# Altium schematic symbol library pporyzala-TI_Lighting.SchLib: 745 symbols (part 42 of 48)
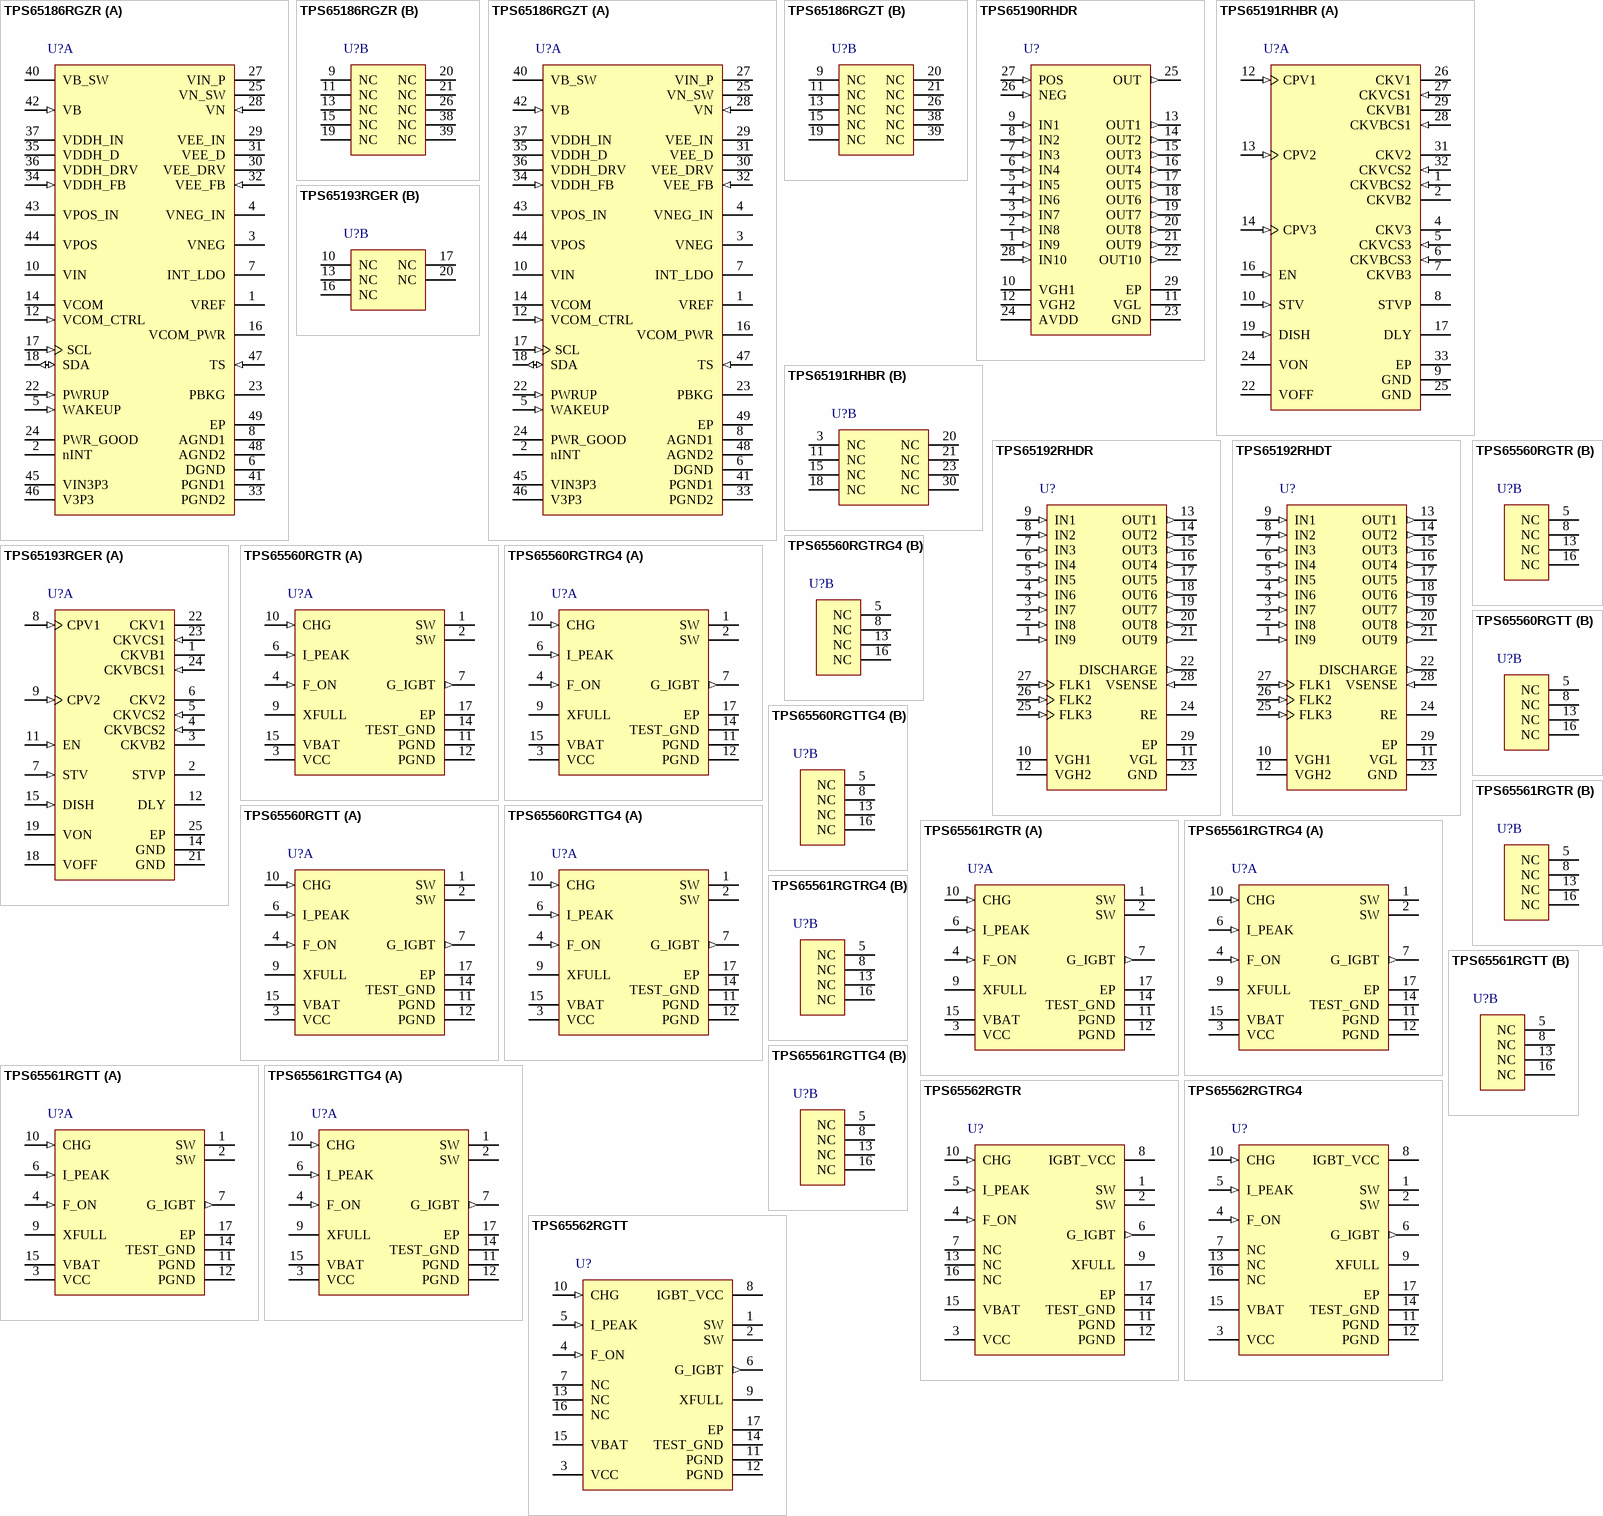
[diagram p72: symbols TPS65186RGZR to TPS65562RGTT]

## TPS65190RHDR
designator U?
10-Channel Level Shifter for LCD Displays with VCOM Op-Amp, 12 to 38 V, -40 to 85 degC, 28-pin QFN (RHD28), Green (RoHS & no Sb/Br); Manufacturer: Texas Instruments; PartNumber: TPS65190RHDR; Rating: Catalog; SubFamily: LCD/OLED Display Bias Solutions; Switching Frequency(Max)(kHz): 200; Vin(Max)(V): 38; Vin(Min)(V): 12; DatasheetVersion: SLVS881; PackageVersion: 4204400/F; PackageReference: RHD28-3150X3150TP; PackageDescription: 28-Pin Plastic Flat Pack, Body 5 x 5 mm, Pitch 0.5 mm; Supplier 1: Digi-Key; Supplier Part Number 1: 296-25185-2-ND; Supplier 2: Digi-Key; Supplier Part Number 2: 296-25185-1-ND; Supplier 3: Digi-Key; Supplier Part Number 3: 296-25185-6-ND; Supplier 4: Mouser; Supplier Part Number 4: 595-TPS65190RHDR; Eco-Plan: Green (RoHS & no Sb/Br); Mounting Technology: Surface Mount; Code_JEDEC: MO-220; ComponentLink1Description: Manufacturer URL; ComponentLink1URL: http://www.ti.com/; ComponentLink2Description: Datasheet; ComponentLink2URL: http://www.ti.com/general/docs/lit/getliterature.tsp?genericPartNumber=TPS65190&fileType=pdf; ComponentLink3Description: Package Specification; ComponentLink3URL: http://www.ti.com/lit/ml/mpqf133e/mpqf133e.pdf
footprint TI-RHD28-3150X3150TP_V (QFN, 28-Leads, Body 5x5mm, Pitch 0.5mm, Thermal Pad 3.15x3.15mm)
pins: 1 IN9 (in) "Level shifter channel 9 input", 2 IN8 (in) "Level shifter channel 8 input", 3 IN7 (in) "Level shifter channel 7 input", 4 IN6 (in) "Level shifter channel 6 input", 5 IN5 (in) "Level shifter channel 5 input", 6 IN4 (in) "Level shifter channel 4 input", 7 IN3 (in) "Level shifter channel 3 input", 8 IN2 (in) "Level shifter channel 2 input", 9 IN1 (in) "Level shifter channel 1 input", 10 VGH1 (power) "Positive supply for level shifter channels 1-6 and 9-10", 11 VGL (power) "Negative supply voltage for all level shifter channels", 12 VGH2 (power) "Positive supply for level shifter channels 7-8", 13 OUT1 (out) "Level shifter channel 1 output", 14 OUT2 (out) "Level shifter channel 2 output", 15 OUT3 (out) "Level shifter channel 3 output", 16 OUT4 (out) "Level shifter channel 4 output", 17 OUT5 (out) "Level shifter channel 5 output", 18 OUT6 (out) "Level shifter channel 6 output", 19 OUT7 (out) "Level shifter channel 7 output", 20 OUT8 (out) "Level shifter channel 8 output", 21 OUT9 (out) "Level shifter channel 9 output", 22 OUT10 (out) "Level shifter channel 10 output", 23 GND (power) "Ground connection for level shifter and operational amplifier.", 24 AVDD (power) "Operational amplifier positive supply", 25 OUT (out) "Operational amplifier output", 26 NEG (in) "Operational amplifier inverting input", 27 POS (in) "Operational amplifier non-inverting input", 28 IN10 (in) "Level shifter channel 10 input", 29 EP (power) "Connect to the system VGL connection."

## TPS65191RHBR
designator U?
7-Channel Level Shifter for LCD Displays, 15 to 35 V, -40 to 85 degC, 32-pin QFN (RHB32), Green (RoHS & no Sb/Br); Manufacturer: Texas Instruments; PartNumber: TPS65191RHBR; Rating: Catalog; SubFamily: LCD/OLED Display Bias Solutions; Switching Frequency(Max)(kHz): 150; Vin(Max)(V): 35; Vin(Min)(V): 15; DatasheetVersion: SLVS963A; PackageVersion: 4204326/D; PackageReference: RHB32-3450X3450TP; PackageDescription: 32-Pin Plastic Flat Pack, Body 5 x 5 mm, Pitch 0.5 mm; Supplier 1: Digi-Key; Supplier Part Number 1: 296-24956-2-ND; Supplier 2: Digi-Key; Supplier Part Number 2: 296-24956-1-ND; Supplier 3: Digi-Key; Supplier Part Number 3: 296-24956-6-ND; Supplier 4: Mouser; Supplier Part Number 4: 595-TPS65191RHBR; Eco-Plan: Green (RoHS & no Sb/Br); Mounting Technology: Surface Mount; Code_JEDEC: MO-220; ComponentLink1Description: Manufacturer URL; ComponentLink1URL: http://www.ti.com/; ComponentLink2Description: Datasheet; ComponentLink2URL: http://www.ti.com/general/docs/lit/getliterature.tsp?genericPartNumber=TPS65191&fileType=pdf; ComponentLink3Description: Package Specification; ComponentLink3URL: http://www.ti.com/lit/ml/mpqf130c/mpqf130c.pdf
footprint TI-RHB32-3450X3450TP_V (QFN, 32-Leads, Body 5x5mm, Pitch 0.5mm, Thermal Pad 3.45x3.45mm)
part A pins: 1 CKVBCS2 (in) "Charge-share input for CKVB2", 2 CKVB2 (hiz) "Inverted-output vertical-scan clock 2 for ASG", 4 CKV3 (hiz) "Output vertical-scan clock 3 for ASG", 5 CKVCS3 (in) "Charge-share input for CKV3", 6 CKVBCS3 (in) "Charge-share input for CKVB3", 7 CKVB3 (hiz) "Inverted-output vertical-scan clock 3 for ASG", 8 STVP (hiz) "Output vertical-scan start signal", 9 GND (power) "Ground", 10 STV (in) "Input vertical-scan start signal", 12 CPV1 (in) "Input vertical-scan clock 1", 13 CPV2 (in) "Input vertical-scan clock 2", 14 CPV3 (in) "Input vertical-scan clock 3", 16 EN (in) "Enable pin of device. When this pin is pulled high, the device starts up after a delay time set by DLY has passed.", 17 DLY "Connecting a capacitor from this pin to GND allows the setting of the start-up delay.", 19 DISH (in) "VOFF discharge control", 22 VOFF (power) "Negative low-supply voltage", 24 VON (power) "Positive high-supply voltage", 25 GND (power) "Ground", 26 CKV1 (hiz) "Output vertical-scan clock 1 for ASG", 27 CKVCS1 (in) "Charge-share input for CKV1", 28 CKVBCS1 (in) "Charge-share input for CKVB1", 29 CKVB1 (hiz) "Inverted-output vertical-scan clock 1 for ASG", 31 CKV2 (hiz) "Output vertical-scan clock 2 for ASG", 32 CKVCS2 (in) "Charge-share input for CKV2", 33 EP "Not connected"
part B pins: 3 NC "Not connected", 11 NC "Not connected", 15 NC "Not connected", 18 NC "Not connected", 20 NC "Not connected", 21 NC "Not connected", 23 NC "Not connected", 30 NC "Not connected"

## TPS65192RHDR
designator U?
9-Channel Level Shifter for LCD Displays with GPM, 12 to 38 V, -40 to 85 degC, 28-pin QFN (RHD28), Green (RoHS & no Sb/Br); Manufacturer: Texas Instruments; PartNumber: TPS65192RHDR; Rating: Catalog; SubFamily: LCD/OLED Display Bias Solutions; Switching Frequency(Max)(kHz): 200; Vin(Max)(V): 38; Vin(Min)(V): 12; DatasheetVersion: SLVS962; PackageVersion: 4204400/F; PackageReference: RHD28-3150X3150TP; PackageDescription: 28-Pin Plastic Flat Pack, Body 5 x 5 mm, Pitch 0.5 mm; Supplier 1: Digi-Key; Supplier Part Number 1: 296-24871-2-ND; Supplier 2: Digi-Key; Supplier Part Number 2: 296-24871-1-ND; Supplier 3: Digi-Key; Supplier Part Number 3: 296-24871-6-ND; Supplier 4: Mouser; Supplier Part Number 4: 595-TPS65192RHDR; Eco-Plan: Green (RoHS & no Sb/Br); Mounting Technology: Surface Mount; Code_JEDEC: MO-220; ComponentLink1Description: Manufacturer URL; ComponentLink1URL: http://www.ti.com/; ComponentLink2Description: Datasheet; ComponentLink2URL: http://www.ti.com/general/docs/lit/getliterature.tsp?genericPartNumber=TPS65192&fileType=pdf; ComponentLink3Description: Package Specification; ComponentLink3URL: http://www.ti.com/lit/ml/mpqf133e/mpqf133e.pdf
footprint TI-RHD28-3150X3150TP_V (QFN, 28-Leads, Body 5x5mm, Pitch 0.5mm, Thermal Pad 3.15x3.15mm)
pins: 1 IN9 (in) "Level shifter channel 9 input. Connect this pin to GND, if not used.", 2 IN8 (in) "Level shifter channel 8 input. Connect this pin to GND, if not used.", 3 IN7 (in) "Level shifter channel 7 input. Connect this pin to GND, if not used.", 4 IN6 (in) "Level shifter channel 6 input. Connect this pin to GND, if not used.", 5 IN5 (in) "Level shifter channel 5 input. Connect this pin to GND, if not used.", 6 IN4 (in) "Level shifter channel 4 input. Connect this pin to GND, if not used.", 7 IN3 (in) "Level shifter channel 3 input. Connect this pin to GND, if not used.", 8 IN2 (in) "Level shifter channel 2 input. Connect this pin to GND, if not used.", 9 IN1 (in) "Level shifter channel 1 input. Connect this pin to GND, if not used.", 10 VGH1 (power) "Positive supply voltage for level shifter channels 1 through 7 and discharge function. Bypass this pin with a parallel combination of 10uF and 100nF ceramic capacitors.", 11 VGL (power) "Negative supply voltage. Bypass this pin with a parallel combination of 10uF and 100nF ceramic capacitors", 12 VGH2 (power) "Positive supply voltage for level shifter channels 8 and 9. Bypass this pin with a parallel combination of 10uF and 100nF ceramic capacitors.", 13 OUT1 (out) "Level shifter channel 1 output. Leave this pin floating, if not used.", 14 OUT2 (out) "Level shifter channel 2 output. Leave this pin floating, if not used.", 15 OUT3 (out) "Level shifter channel 3 output. Leave this pin floating, if not used.", 16 OUT4 (out) "Level shifter channel 4 output. Leave this pin floating, if not used.", 17 OUT5 (out) "Level shifter channel 5 output. Leave this pin floating, if not used.", 18 OUT6 (out) "Level shifter channel 6 output. Leave this pin floating, if not used.", 19 OUT7 (out) "Level shifter channel 7 output. Leave this pin floating, if not used.", 20 OUT8 (out) "Level shifter channel 8 output. Leave this pin floating, if not used.", 21 OUT9 (out) "Level shifter channel 9 output. Leave this pin floating, if not used.", 22 DISCHARGE (out) "Panel discharge output. Leave this pin floating, if not used.", 23 GND (power) "Ground.", 24 RE "Gate voltage shaping discharge resistor connection. Leave this pin floating, if not used.", 25 FLK3 (in) "Gate voltage shaping flicker clock input for channels 3 and 6. Connect this pin to GND if not used.", 26 FLK2 (in) "Gate voltage shaping flicker clock input for channels 2 and 5. Connect this pin to GND if not used.", 27 FLK1 (in) "Gate voltage shaping flicker clock input for channels 1 and 4. Connect this pin to GND if not used.", 28 VSENSE (in) "Panel discharge voltage sense. Connect this pin to GND, if not used.", 29 EP (power) "Connect to VGL"

## TPS65192RHDT
designator U?
9-Channel Level Shifter for LCD Displays with GPM, 12 to 38 V, -40 to 85 degC, 28-pin QFN (RHD28); Manufacturer: Texas Instruments; PartNumber: TPS65192RHDT; Rating: Catalog; SubFamily: LCD/OLED Display Bias Solutions; Switching Frequency(Max)(kHz): 200; Vin(Max)(V): 38; Vin(Min)(V): 12; DatasheetVersion: SLVS962; PackageVersion: 4204400/F; PackageReference: RHD28-3150X3150TP; PackageDescription: 28-Pin Plastic Flat Pack, Body 5 x 5 mm, Pitch 0.5 mm; Supplier 1: Mouser; Supplier Part Number 1: N/A; Mounting Technology: Surface Mount; Code_JEDEC: MO-220; ComponentLink1Description: Manufacturer URL; ComponentLink1URL: http://www.ti.com/; ComponentLink2Description: Datasheet; ComponentLink2URL: http://www.ti.com/general/docs/lit/getliterature.tsp?genericPartNumber=TPS65192&fileType=pdf; ComponentLink3Description: Package Specification; ComponentLink3URL: http://www.ti.com/lit/ml/mpqf133e/mpqf133e.pdf
footprint TI-RHD28-3150X3150TP_V (QFN, 28-Leads, Body 5x5mm, Pitch 0.5mm, Thermal Pad 3.15x3.15mm)
pins: 1 IN9 (in) "Level shifter channel 9 input. Connect this pin to GND, if not used.", 2 IN8 (in) "Level shifter channel 8 input. Connect this pin to GND, if not used.", 3 IN7 (in) "Level shifter channel 7 input. Connect this pin to GND, if not used.", 4 IN6 (in) "Level shifter channel 6 input. Connect this pin to GND, if not used.", 5 IN5 (in) "Level shifter channel 5 input. Connect this pin to GND, if not used.", 6 IN4 (in) "Level shifter channel 4 input. Connect this pin to GND, if not used.", 7 IN3 (in) "Level shifter channel 3 input. Connect this pin to GND, if not used.", 8 IN2 (in) "Level shifter channel 2 input. Connect this pin to GND, if not used.", 9 IN1 (in) "Level shifter channel 1 input. Connect this pin to GND, if not used.", 10 VGH1 (power) "Positive supply voltage for level shifter channels 1 through 7 and discharge function. Bypass this pin with a parallel combination of 10uF and 100nF ceramic capacitors.", 11 VGL (power) "Negative supply voltage. Bypass this pin with a parallel combination of 10uF and 100nF ceramic capacitors", 12 VGH2 (power) "Positive supply voltage for level shifter channels 8 and 9. Bypass this pin with a parallel combination of 10uF and 100nF ceramic capacitors.", 13 OUT1 (out) "Level shifter channel 1 output. Leave this pin floating, if not used.", 14 OUT2 (out) "Level shifter channel 2 output. Leave this pin floating, if not used.", 15 OUT3 (out) "Level shifter channel 3 output. Leave this pin floating, if not used.", 16 OUT4 (out) "Level shifter channel 4 output. Leave this pin floating, if not used.", 17 OUT5 (out) "Level shifter channel 5 output. Leave this pin floating, if not used.", 18 OUT6 (out) "Level shifter channel 6 output. Leave this pin floating, if not used.", 19 OUT7 (out) "Level shifter channel 7 output. Leave this pin floating, if not used.", 20 OUT8 (out) "Level shifter channel 8 output. Leave this pin floating, if not used.", 21 OUT9 (out) "Level shifter channel 9 output. Leave this pin floating, if not used.", 22 DISCHARGE (out) "Panel discharge output. Leave this pin floating, if not used.", 23 GND (power) "Ground.", 24 RE "Gate voltage shaping discharge resistor connection. Leave this pin floating, if not used.", 25 FLK3 (in) "Gate voltage shaping flicker clock input for channels 3 and 6. Connect this pin to GND if not used.", 26 FLK2 (in) "Gate voltage shaping flicker clock input for channels 2 and 5. Connect this pin to GND if not used.", 27 FLK1 (in) "Gate voltage shaping flicker clock input for channels 1 and 4. Connect this pin to GND if not used.", 28 VSENSE (in) "Panel discharge voltage sense. Connect this pin to GND, if not used.", 29 EP (power) "Connect to VGL"

## TPS65193RGER
designator U?
5-Channel Level Shifter for LCD Displays, 15 to 35 V, -40 to 85 degC, 24-pin QFN (RGE24), Green (RoHS & no Sb/Br); Manufacturer: Texas Instruments; PartNumber: TPS65193RGER; Rating: Catalog; SubFamily: LCD/OLED Display Bias Solutions; Switching Frequency(Max)(kHz): 150; Vin(Max)(V): 35; Vin(Min)(V): 15; DatasheetVersion: SLVS964A; PackageVersion: 4204104/G; PackageReference: RGE24-2800X2800TP; PackageDescription: 24-Pin Plastic Flat Pack, Body 4 x 4 mm, Pitch 0.5 mm; Supplier 1: Digi-Key; Supplier Part Number 1: 296-24943-2-ND; Supplier 2: Digi-Key; Supplier Part Number 2: 296-24943-1-ND; Supplier 3: Digi-Key; Supplier Part Number 3: 296-24943-6-ND; Supplier 4: Newark; Supplier Part Number 4: 50R8153; Supplier 5: Mouser; Supplier Part Number 5: 595-TPS65193RGER; Eco-Plan: Green (RoHS & no Sb/Br); Mounting Technology: Surface Mount; Code_JEDEC: MO-220; ComponentLink1Description: Manufacturer URL; ComponentLink1URL: http://www.ti.com/; ComponentLink2Description: Datasheet; ComponentLink2URL: http://www.ti.com/general/docs/lit/getliterature.tsp?genericPartNumber=TPS65193&fileType=pdf; ComponentLink3Description: Package Specification; ComponentLink3URL: http://www.ti.com/litv/pdf/mpqf124f
footprint TI-RGE24-2800X2800TP_V (QFN, 24-Leads, Body 4x4mm, Pitch 0.5mm, Thermal Pad 2.8X2.8mm)
part A pins: 1 CKVB1 (hiz) "Inverted-output vertical-scan clock 1 for ASG", 2 STVP (hiz) "Output vertical-scan start signal", 3 CKVB2 (hiz) "Inverted-output vertical-scan clock 2 for ASG", 4 CKVBCS2 (in) "Charge-share input for CKVB2", 5 CKVCS2 (in) "Charge-share input for CKV2", 6 CKV2 (hiz) "Output vertical-scan clock 2 for ASG", 7 STV (in) "Input vertical-scan start signal", 8 CPV1 (in) "Input vertical-scan clock 1", 9 CPV2 (in) "Input vertical-scan clock 2", 11 EN (in) "Enable pin of device. When this pin is pulled high, the device starts up after a delay time set by DLY has passed.", 12 DLY "Connecting a capacitor from this pin to GND allows the setting of the start-up delay.", 14 GND (power) "Ground", 15 DISH (in) "VOFF discharge control", 18 VOFF (power) "Negative low-supply voltage", 19 VON (power) "Positive high-supply voltage", 21 GND (power) "Ground", 22 CKV1 (hiz) "Output vertical-scan clock 1 for ASG", 23 CKVCS1 (in) "Charge-share input for CKV1", 24 CKVBCS1 (in) "Charge-share input for CKVB1", 25 EP "Not connected"
part B pins: 10 NC "Not connected", 13 NC "Not connected", 16 NC "Not connected", 17 NC "Not connected", 20 NC "Not connected"

## TPS65560RGTR
designator U?
Integrated Photo Flash Charger and IGBT Driver, 2.7 to 4 V, -35 to 85 degC, 16-pin QFN (RGT16), Green (RoHS & no Sb/Br); Manufacturer: Texas Instruments; PartNumber: TPS65560RGTR; Rating: Catalog; SubFamily: Photo-Flash Capacitor Charger; Vin(Max)(V): 12; Vin(Min)(V): 1.6; DatasheetVersion: SLVS608; PackageVersion: 4203495/H; PackageReference: RGT16-1700X1700TP; PackageDescription: 16-Pin Plastic Flat Pack, Body 3 x 3 mm, Pitch 0.5 mm; Supplier 1: Digi-Key; Supplier Part Number 1: 296-19478-2-ND; Supplier 2: Digi-Key; Supplier Part Number 2: 296-19478-1-ND; Supplier 3: Digi-Key; Supplier Part Number 3: 296-19478-6-ND; Supplier 4: Newark; Supplier Part Number 4: 80K3423; Supplier 5: Mouser; Supplier Part Number 5: 595-TPS65560RGTR; Eco-Plan: Green (RoHS & no Sb/Br); Mounting Technology: Surface Mount; Code_JEDEC: MO-220; ComponentLink1Description: Manufacturer URL; ComponentLink1URL: http://www.ti.com/; ComponentLink2Description: Datasheet; ComponentLink2URL: http://www.ti.com/general/docs/lit/getliterature.tsp?genericPartNumber=TPS65560&fileType=pdf; ComponentLink3Description: Package Specification; ComponentLink3URL: http://www.ti.com/litv/pdf/mpqf119g
footprint TI-RGT16-1700X1700TP_V (QFN, 16-Leads, Body 3x3mm, Pitch 0.5mm, Thermal Pad 1.7x1.7mm)
part A pins: 1 SW (power) "Primary side switch. Connect SW to the switched side of the transformer", 2 SW (power) "Primary side switch. Connect SW to the switched side of the transformer", 3 VCC (power) "Power supply input. Connect VCC to an input supply from 2.7 V to 4 V. Bypass VCC to GND with a 1-mF ceramic capacitor as close as possible to the IC.", 4 F_ON (in) "G_IGBT control input. Drives F_ON with the flash discharge signal. A logic high on F_ON drives G_IGBT high when CHG is Low. See the IGBT Driver Conrtol section for details.", 6 I_PEAK (in) "Primary side peak current control input. The voltage at I_PEAK sets the peak current into SW. See the Programming Peak Current section for details on selecting V(I_PEAK).", 7 G_IGBT (out) "IGBT gate driver output. G_IGBT swings from PGND to VCC to drive external IGBT devices.", 9 XFULL (hiz) "Charge completion indicator output. XFULL is an open-drain output that pulls low once the output is fully charged. XFULL is high impedance during charging and all fault conditions. XFULL is reseted when CHG turns Low from (See Datasheet)", 10 CHG (in) "Charge control input. Drive CHG high to initiate charging of the output. Drive CHG low to terminate charging.", 11 PGND (power) "Power ground. Connect to the ground plane.", 12 PGND (power) "Power ground. Connect to the ground plane.", 14 TEST_GND (power) "Used by TI, should be connected to PGND and ground plane.", 15 VBAT (power) "Battery voltage monitor input. Connect VBAT to an input supply from 1.6 V to 12 V. Bypass VBAT to GND with a 10-mF ceramic capacitor (C1 in Figure 1, as close as possible to the battery) and a 1-mF ceramic capacitor (C2 in (See Datasheet)", 17 EP "Exposed Thermal pad"
part B pins: 5 NC "No internal connection", 8 NC "No internal connection", 13 NC "No internal connection", 16 NC "No internal connection"

## TPS65560RGTRG4
designator U?
Integrated Photo Flash Charger and IGBT Driver, 2.7 to 4 V, -35 to 85 degC, 16-pin QFN (RGT16), Green (RoHS & no Sb/Br); Manufacturer: Texas Instruments; PartNumber: TPS65560RGTRG4; Rating: Catalog; SubFamily: Photo-Flash Capacitor Charger; Vin(Max)(V): 12; Vin(Min)(V): 1.6; DatasheetVersion: SLVS608; PackageVersion: 4203495/H; PackageReference: RGT16-1700X1700TP; PackageDescription: 16-Pin Plastic Flat Pack, Body 3 x 3 mm, Pitch 0.5 mm; Supplier 1: Digi-Key; Supplier Part Number 1: TPS65560RGTRG4-ND; Supplier 2: Mouser; Supplier Part Number 2: 595-TPS65560RGTRG4; Eco-Plan: Green (RoHS & no Sb/Br); Mounting Technology: Surface Mount; Code_JEDEC: MO-220; ComponentLink1Description: Manufacturer URL; ComponentLink1URL: http://www.ti.com/; ComponentLink2Description: Datasheet; ComponentLink2URL: http://www.ti.com/general/docs/lit/getliterature.tsp?genericPartNumber=TPS65560&fileType=pdf; ComponentLink3Description: Package Specification; ComponentLink3URL: http://www.ti.com/litv/pdf/mpqf119g
footprint TI-RGT16-1700X1700TP_V (QFN, 16-Leads, Body 3x3mm, Pitch 0.5mm, Thermal Pad 1.7x1.7mm)
part A pins: 1 SW (power) "Primary side switch. Connect SW to the switched side of the transformer", 2 SW (power) "Primary side switch. Connect SW to the switched side of the transformer", 3 VCC (power) "Power supply input. Connect VCC to an input supply from 2.7 V to 4 V. Bypass VCC to GND with a 1-mF ceramic capacitor as close as possible to the IC.", 4 F_ON (in) "G_IGBT control input. Drives F_ON with the flash discharge signal. A logic high on F_ON drives G_IGBT high when CHG is Low. See the IGBT Driver Conrtol section for details.", 6 I_PEAK (in) "Primary side peak current control input. The voltage at I_PEAK sets the peak current into SW. See the Programming Peak Current section for details on selecting V(I_PEAK).", 7 G_IGBT (out) "IGBT gate driver output. G_IGBT swings from PGND to VCC to drive external IGBT devices.", 9 XFULL (hiz) "Charge completion indicator output. XFULL is an open-drain output that pulls low once the output is fully charged. XFULL is high impedance during charging and all fault conditions. XFULL is reseted when CHG turns Low from (See Datasheet)", 10 CHG (in) "Charge control input. Drive CHG high to initiate charging of the output. Drive CHG low to terminate charging.", 11 PGND (power) "Power ground. Connect to the ground plane.", 12 PGND (power) "Power ground. Connect to the ground plane.", 14 TEST_GND (power) "Used by TI, should be connected to PGND and ground plane.", 15 VBAT (power) "Battery voltage monitor input. Connect VBAT to an input supply from 1.6 V to 12 V. Bypass VBAT to GND with a 10-mF ceramic capacitor (C1 in Figure 1, as close as possible to the battery) and a 1-mF ceramic capacitor (C2 in (See Datasheet)", 17 EP "Exposed Thermal pad"
part B pins: 5 NC "No internal connection", 8 NC "No internal connection", 13 NC "No internal connection", 16 NC "No internal connection"

## TPS65560RGTT
designator U?
Integrated Photo Flash Charger and IGBT Driver, 2.7 to 4 V, -35 to 85 degC, 16-pin QFN (RGT16), Green (RoHS & no Sb/Br); Manufacturer: Texas Instruments; PartNumber: TPS65560RGTT; Rating: Catalog; SubFamily: Photo-Flash Capacitor Charger; Vin(Max)(V): 12; Vin(Min)(V): 1.6; DatasheetVersion: SLVS608; PackageVersion: 4203495/H; PackageReference: RGT16-1700X1700TP; PackageDescription: 16-Pin Plastic Flat Pack, Body 3 x 3 mm, Pitch 0.5 mm; Supplier 1: Digi-Key; Supplier Part Number 1: TPS65560RGTT-ND; Supplier 2: Farnell; Supplier Part Number 2: 1755646RL; Supplier 3: Farnell; Supplier Part Number 3: 1755646; Supplier 4: Newark; Supplier Part Number 4: 80K3424; Supplier 5: Mouser; Supplier Part Number 5: 595-TPS65560RGTT; Eco-Plan: Green (RoHS & no Sb/Br); Mounting Technology: Surface Mount; Code_JEDEC: MO-220; ComponentLink1Description: Manufacturer URL; ComponentLink1URL: http://www.ti.com/; ComponentLink2Description: Datasheet; ComponentLink2URL: http://www.ti.com/general/docs/lit/getliterature.tsp?genericPartNumber=TPS65560&fileType=pdf; ComponentLink3Description: Package Specification; ComponentLink3URL: http://www.ti.com/litv/pdf/mpqf119g
footprint TI-RGT16-1700X1700TP_V (QFN, 16-Leads, Body 3x3mm, Pitch 0.5mm, Thermal Pad 1.7x1.7mm)
part A pins: 1 SW (power) "Primary side switch. Connect SW to the switched side of the transformer", 2 SW (power) "Primary side switch. Connect SW to the switched side of the transformer", 3 VCC (power) "Power supply input. Connect VCC to an input supply from 2.7 V to 4 V. Bypass VCC to GND with a 1-mF ceramic capacitor as close as possible to the IC.", 4 F_ON (in) "G_IGBT control input. Drives F_ON with the flash discharge signal. A logic high on F_ON drives G_IGBT high when CHG is Low. See the IGBT Driver Conrtol section for details.", 6 I_PEAK (in) "Primary side peak current control input. The voltage at I_PEAK sets the peak current into SW. See the Programming Peak Current section for details on selecting V(I_PEAK).", 7 G_IGBT (out) "IGBT gate driver output. G_IGBT swings from PGND to VCC to drive external IGBT devices.", 9 XFULL (hiz) "Charge completion indicator output. XFULL is an open-drain output that pulls low once the output is fully charged. XFULL is high impedance during charging and all fault conditions. XFULL is reseted when CHG turns Low from (See Datasheet)", 10 CHG (in) "Charge control input. Drive CHG high to initiate charging of the output. Drive CHG low to terminate charging.", 11 PGND (power) "Power ground. Connect to the ground plane.", 12 PGND (power) "Power ground. Connect to the ground plane.", 14 TEST_GND (power) "Used by TI, should be connected to PGND and ground plane.", 15 VBAT (power) "Battery voltage monitor input. Connect VBAT to an input supply from 1.6 V to 12 V. Bypass VBAT to GND with a 10-mF ceramic capacitor (C1 in Figure 1, as close as possible to the battery) and a 1-mF ceramic capacitor (C2 in (See Datasheet)", 17 EP "Exposed Thermal pad"
part B pins: 5 NC "No internal connection", 8 NC "No internal connection", 13 NC "No internal connection", 16 NC "No internal connection"

## TPS65560RGTTG4
designator U?
Integrated Photo Flash Charger and IGBT Driver, 2.7 to 4 V, -35 to 85 degC, 16-pin QFN (RGT16), Green (RoHS & no Sb/Br); Manufacturer: Texas Instruments; PartNumber: TPS65560RGTTG4; Rating: Catalog; SubFamily: Photo-Flash Capacitor Charger; Vin(Max)(V): 12; Vin(Min)(V): 1.6; DatasheetVersion: SLVS608; PackageVersion: 4203495/H; PackageReference: RGT16-1700X1700TP; PackageDescription: 16-Pin Plastic Flat Pack, Body 3 x 3 mm, Pitch 0.5 mm; Supplier 1: Digi-Key; Supplier Part Number 1: TPS65560RGTTG4-ND; Supplier 2: Mouser; Supplier Part Number 2: 595-TPS65560RGTTG4; Eco-Plan: Green (RoHS & no Sb/Br); Mounting Technology: Surface Mount; Code_JEDEC: MO-220; ComponentLink1Description: Manufacturer URL; ComponentLink1URL: http://www.ti.com/; ComponentLink2Description: Datasheet; ComponentLink2URL: http://www.ti.com/general/docs/lit/getliterature.tsp?genericPartNumber=TPS65560&fileType=pdf; ComponentLink3Description: Package Specification; ComponentLink3URL: http://www.ti.com/litv/pdf/mpqf119g
footprint TI-RGT16-1700X1700TP_V (QFN, 16-Leads, Body 3x3mm, Pitch 0.5mm, Thermal Pad 1.7x1.7mm)
part A pins: 1 SW (power) "Primary side switch. Connect SW to the switched side of the transformer", 2 SW (power) "Primary side switch. Connect SW to the switched side of the transformer", 3 VCC (power) "Power supply input. Connect VCC to an input supply from 2.7 V to 4 V. Bypass VCC to GND with a 1-mF ceramic capacitor as close as possible to the IC.", 4 F_ON (in) "G_IGBT control input. Drives F_ON with the flash discharge signal. A logic high on F_ON drives G_IGBT high when CHG is Low. See the IGBT Driver Conrtol section for details.", 6 I_PEAK (in) "Primary side peak current control input. The voltage at I_PEAK sets the peak current into SW. See the Programming Peak Current section for details on selecting V(I_PEAK).", 7 G_IGBT (out) "IGBT gate driver output. G_IGBT swings from PGND to VCC to drive external IGBT devices.", 9 XFULL (hiz) "Charge completion indicator output. XFULL is an open-drain output that pulls low once the output is fully charged. XFULL is high impedance during charging and all fault conditions. XFULL is reseted when CHG turns Low from (See Datasheet)", 10 CHG (in) "Charge control input. Drive CHG high to initiate charging of the output. Drive CHG low to terminate charging.", 11 PGND (power) "Power ground. Connect to the ground plane.", 12 PGND (power) "Power ground. Connect to the ground plane.", 14 TEST_GND (power) "Used by TI, should be connected to PGND and ground plane.", 15 VBAT (power) "Battery voltage monitor input. Connect VBAT to an input supply from 1.6 V to 12 V. Bypass VBAT to GND with a 10-mF ceramic capacitor (C1 in Figure 1, as close as possible to the battery) and a 1-mF ceramic capacitor (C2 in (See Datasheet)", 17 EP "Exposed Thermal pad"
part B pins: 5 NC "No internal connection", 8 NC "No internal connection", 13 NC "No internal connection", 16 NC "No internal connection"

## TPS65561RGTR
designator U?
Integrated Photo Flash Charger and IGBT Driver, 2.7 to 4 V, -35 to 70 degC, 16-pin QFN (RGT16), Green (RoHS & no Sb/Br); Manufacturer: Texas Instruments; PartNumber: TPS65561RGTR; Rating: Catalog; SubFamily: Camera Flash LED Drive; Vin(Max)(V): 12; Vin(Min)(V): 1.6; DatasheetVersion: SLVS691; PackageVersion: 4203495/H; PackageReference: RGT16-1650X1650TP; PackageDescription: 16-Pin Plastic Flat Pack, Body 3 x 3 mm, Pitch 0.5 mm; Supplier 1: Digi-Key; Supplier Part Number 1: 296-21618-2-ND; Supplier 2: Digi-Key; Supplier Part Number 2: 296-21618-1-ND; Supplier 3: Digi-Key; Supplier Part Number 3: 296-21618-6-ND; Supplier 4: Newark; Supplier Part Number 4: 34M0206; Supplier 5: Mouser; Supplier Part Number 5: 595-TPS65561RGTR; Eco-Plan: Green (RoHS & no Sb/Br); Mounting Technology: Surface Mount; Code_JEDEC: MO-220; ComponentLink1Description: Manufacturer URL; ComponentLink1URL: http://www.ti.com/; ComponentLink2Description: Datasheet; ComponentLink2URL: http://www.ti.com/general/docs/lit/getliterature.tsp?genericPartNumber=TPS65561&fileType=pdf; ComponentLink3Description: Package Specification; ComponentLink3URL: http://www.ti.com/litv/pdf/mpqf119g
footprint TI-RGT16-1650X1650TP_V (QFN, 16-Leads, Body 3x3mm, Pitch 0.5mm, Thermal Pad 1.7x1.7mm)
part A pins: 1 SW (power) "Primary side switch. Connect SW to the switched side of the transformer", 2 SW (power) "Primary side switch. Connect SW to the switched side of the transformer", 3 VCC (power) "Power supply input. Connect VCC to an input supply from 2.7 V to 4 V. Bypass VCC to GND with a 1-mF ceramic capacitor as close as possible to the IC.", 4 F_ON (in) "G_IGBT control input. Drives F_ON with the flash discharge signal. A logic high on F_ON drives G_IGBT high when CHG is Low. See the IGBT Driver Conrtol section for details.", 6 I_PEAK (in) "Primary side peak current control input. The voltage at I_PEAK sets the peak current into SW. See the Programming Peak Current section for details on selecting V(I_PEAK).", 7 G_IGBT (out) "IGBT gate driver output. G_IGBT swings from PGND to VCC to drive external IGBT devices.", 9 XFULL (hiz) "Charge completion indicator output. XFULL is an open-drain output that pulls low once the output is fully charged. XFULL is high impedance during charging and all fault conditions. XFULL is reseted when CHG turns Low from (See Datasheet)", 10 CHG (in) "Charge control input. Drive CHG high to initiate charging of the output. Drive CHG low to terminate charging.", 11 PGND (power) "Power ground. Connect to the ground plane.", 12 PGND (power) "Power ground. Connect to the ground plane.", 14 TEST_GND (power) "Used by TI, should be connected to PGND and ground plane.", 15 VBAT (power) "Battery voltage monitor input. Connect VBAT to an input supply from 1.6 V to 12 V. Bypass VBAT to GND with a 10-mF ceramic capacitor (C1 in Figure 1, as close as possible to the battery) and a 1-mF ceramic capacitor (C2 in (See Datasheet)", 17 EP "Exposed Thermal pad"
part B pins: 5 NC "No internal connection", 8 NC "No internal connection", 13 NC "No internal connection", 16 NC "No internal connection"

## TPS65561RGTRG4
designator U?
Integrated Photo Flash Charger and IGBT Driver, 2.7 to 4 V, -35 to 70 degC, 16-pin QFN (RGT16), Green (RoHS & no Sb/Br); Manufacturer: Texas Instruments; PartNumber: TPS65561RGTRG4; Rating: Catalog; SubFamily: Camera Flash LED Drive; Vin(Max)(V): 12; Vin(Min)(V): 1.6; DatasheetVersion: SLVS691; PackageVersion: 4203495/H; PackageReference: RGT16-1650X1650TP; PackageDescription: 16-Pin Plastic Flat Pack, Body 3 x 3 mm, Pitch 0.5 mm; Supplier 1: Digi-Key; Supplier Part Number 1: TPS65561RGTRG4-ND; Supplier 2: Newark; Supplier Part Number 2: 34M0207; Supplier 3: Mouser; Supplier Part Number 3: 595-TPS65561RGTRG4; Eco-Plan: Green (RoHS & no Sb/Br); Mounting Technology: Surface Mount; Code_JEDEC: MO-220; ComponentLink1Description: Manufacturer URL; ComponentLink1URL: http://www.ti.com/; ComponentLink2Description: Datasheet; ComponentLink2URL: http://www.ti.com/general/docs/lit/getliterature.tsp?genericPartNumber=TPS65561&fileType=pdf; ComponentLink3Description: Package Specification; ComponentLink3URL: http://www.ti.com/litv/pdf/mpqf119g
footprint TI-RGT16-1650X1650TP_V (QFN, 16-Leads, Body 3x3mm, Pitch 0.5mm, Thermal Pad 1.7x1.7mm)
part A pins: 1 SW (power) "Primary side switch. Connect SW to the switched side of the transformer", 2 SW (power) "Primary side switch. Connect SW to the switched side of the transformer", 3 VCC (power) "Power supply input. Connect VCC to an input supply from 2.7 V to 4 V. Bypass VCC to GND with a 1-mF ceramic capacitor as close as possible to the IC.", 4 F_ON (in) "G_IGBT control input. Drives F_ON with the flash discharge signal. A logic high on F_ON drives G_IGBT high when CHG is Low. See the IGBT Driver Conrtol section for details.", 6 I_PEAK (in) "Primary side peak current control input. The voltage at I_PEAK sets the peak current into SW. See the Programming Peak Current section for details on selecting V(I_PEAK).", 7 G_IGBT (out) "IGBT gate driver output. G_IGBT swings from PGND to VCC to drive external IGBT devices.", 9 XFULL (hiz) "Charge completion indicator output. XFULL is an open-drain output that pulls low once the output is fully charged. XFULL is high impedance during charging and all fault conditions. XFULL is reseted when CHG turns Low from (See Datasheet)", 10 CHG (in) "Charge control input. Drive CHG high to initiate charging of the output. Drive CHG low to terminate charging.", 11 PGND (power) "Power ground. Connect to the ground plane.", 12 PGND (power) "Power ground. Connect to the ground plane.", 14 TEST_GND (power) "Used by TI, should be connected to PGND and ground plane.", 15 VBAT (power) "Battery voltage monitor input. Connect VBAT to an input supply from 1.6 V to 12 V. Bypass VBAT to GND with a 10-mF ceramic capacitor (C1 in Figure 1, as close as possible to the battery) and a 1-mF ceramic capacitor (C2 in (See Datasheet)", 17 EP "Exposed Thermal pad"
part B pins: 5 NC "No internal connection", 8 NC "No internal connection", 13 NC "No internal connection", 16 NC "No internal connection"

## TPS65561RGTT
designator U?
Integrated Photo Flash Charger and IGBT Driver, 2.7 to 4 V, -35 to 70 degC, 16-pin QFN (RGT16), Green (RoHS & no Sb/Br); Manufacturer: Texas Instruments; PartNumber: TPS65561RGTT; Rating: Catalog; SubFamily: Camera Flash LED Drive; Vin(Max)(V): 12; Vin(Min)(V): 1.6; DatasheetVersion: SLVS691; PackageVersion: 4203495/H; PackageReference: RGT16-1650X1650TP; PackageDescription: 16-Pin Plastic Flat Pack, Body 3 x 3 mm, Pitch 0.5 mm; Supplier 1: Digi-Key; Supplier Part Number 1: 296-32527-2-ND; Supplier 2: Digi-Key; Supplier Part Number 2: 296-32527-1-ND; Supplier 3: Digi-Key; Supplier Part Number 3: 296-32527-6-ND; Supplier 4: Newark; Supplier Part Number 4: 34M0208; Supplier 5: Mouser; Supplier Part Number 5: 595-TPS65561RGTT; Eco-Plan: Green (RoHS & no Sb/Br); Mounting Technology: Surface Mount; Code_JEDEC: MO-220; ComponentLink1Description: Manufacturer URL; ComponentLink1URL: http://www.ti.com/; ComponentLink2Description: Datasheet; ComponentLink2URL: http://www.ti.com/general/docs/lit/getliterature.tsp?genericPartNumber=TPS65561&fileType=pdf; ComponentLink3Description: Package Specification; ComponentLink3URL: http://www.ti.com/litv/pdf/mpqf119g
footprint TI-RGT16-1650X1650TP_V (QFN, 16-Leads, Body 3x3mm, Pitch 0.5mm, Thermal Pad 1.7x1.7mm)
part A pins: 1 SW (power) "Primary side switch. Connect SW to the switched side of the transformer", 2 SW (power) "Primary side switch. Connect SW to the switched side of the transformer", 3 VCC (power) "Power supply input. Connect VCC to an input supply from 2.7 V to 4 V. Bypass VCC to GND with a 1-mF ceramic capacitor as close as possible to the IC.", 4 F_ON (in) "G_IGBT control input. Drives F_ON with the flash discharge signal. A logic high on F_ON drives G_IGBT high when CHG is Low. See the IGBT Driver Conrtol section for details.", 6 I_PEAK (in) "Primary side peak current control input. The voltage at I_PEAK sets the peak current into SW. See the Programming Peak Current section for details on selecting V(I_PEAK).", 7 G_IGBT (out) "IGBT gate driver output. G_IGBT swings from PGND to VCC to drive external IGBT devices.", 9 XFULL (hiz) "Charge completion indicator output. XFULL is an open-drain output that pulls low once the output is fully charged. XFULL is high impedance during charging and all fault conditions. XFULL is reseted when CHG turns Low from (See Datasheet)", 10 CHG (in) "Charge control input. Drive CHG high to initiate charging of the output. Drive CHG low to terminate charging.", 11 PGND (power) "Power ground. Connect to the ground plane.", 12 PGND (power) "Power ground. Connect to the ground plane.", 14 TEST_GND (power) "Used by TI, should be connected to PGND and ground plane.", 15 VBAT (power) "Battery voltage monitor input. Connect VBAT to an input supply from 1.6 V to 12 V. Bypass VBAT to GND with a 10-mF ceramic capacitor (C1 in Figure 1, as close as possible to the battery) and a 1-mF ceramic capacitor (C2 in (See Datasheet)", 17 EP "Exposed Thermal pad"
part B pins: 5 NC "No internal connection", 8 NC "No internal connection", 13 NC "No internal connection", 16 NC "No internal connection"

## TPS65561RGTTG4
designator U?
Integrated Photo Flash Charger and IGBT Driver, 2.7 to 4 V, -35 to 70 degC, 16-pin QFN (RGT16), Green (RoHS & no Sb/Br); Manufacturer: Texas Instruments; PartNumber: TPS65561RGTTG4; Rating: Catalog; SubFamily: Camera Flash LED Drive; Vin(Max)(V): 12; Vin(Min)(V): 1.6; DatasheetVersion: SLVS691; PackageVersion: 4203495/H; PackageReference: RGT16-1650X1650TP; PackageDescription: 16-Pin Plastic Flat Pack, Body 3 x 3 mm, Pitch 0.5 mm; Supplier 1: Digi-Key; Supplier Part Number 1: TPS65561RGTTG4-ND; Supplier 2: Newark; Supplier Part Number 2: 34M0209; Supplier 3: Mouser; Supplier Part Number 3: 595-TPS65561RGTTG4; Eco-Plan: Green (RoHS & no Sb/Br); Mounting Technology: Surface Mount; Code_JEDEC: MO-220; ComponentLink1Description: Manufacturer URL; ComponentLink1URL: http://www.ti.com/; ComponentLink2Description: Datasheet; ComponentLink2URL: http://www.ti.com/general/docs/lit/getliterature.tsp?genericPartNumber=TPS65561&fileType=pdf; ComponentLink3Description: Package Specification; ComponentLink3URL: http://www.ti.com/litv/pdf/mpqf119g
footprint TI-RGT16-1650X1650TP_V (QFN, 16-Leads, Body 3x3mm, Pitch 0.5mm, Thermal Pad 1.7x1.7mm)
part A pins: 1 SW (power) "Primary side switch. Connect SW to the switched side of the transformer", 2 SW (power) "Primary side switch. Connect SW to the switched side of the transformer", 3 VCC (power) "Power supply input. Connect VCC to an input supply from 2.7 V to 4 V. Bypass VCC to GND with a 1-mF ceramic capacitor as close as possible to the IC.", 4 F_ON (in) "G_IGBT control input. Drives F_ON with the flash discharge signal. A logic high on F_ON drives G_IGBT high when CHG is Low. See the IGBT Driver Conrtol section for details.", 6 I_PEAK (in) "Primary side peak current control input. The voltage at I_PEAK sets the peak current into SW. See the Programming Peak Current section for details on selecting V(I_PEAK).", 7 G_IGBT (out) "IGBT gate driver output. G_IGBT swings from PGND to VCC to drive external IGBT devices.", 9 XFULL (hiz) "Charge completion indicator output. XFULL is an open-drain output that pulls low once the output is fully charged. XFULL is high impedance during charging and all fault conditions. XFULL is reseted when CHG turns Low from (See Datasheet)", 10 CHG (in) "Charge control input. Drive CHG high to initiate charging of the output. Drive CHG low to terminate charging.", 11 PGND (power) "Power ground. Connect to the ground plane.", 12 PGND (power) "Power ground. Connect to the ground plane.", 14 TEST_GND (power) "Used by TI, should be connected to PGND and ground plane.", 15 VBAT (power) "Battery voltage monitor input. Connect VBAT to an input supply from 1.6 V to 12 V. Bypass VBAT to GND with a 10-mF ceramic capacitor (C1 in Figure 1, as close as possible to the battery) and a 1-mF ceramic capacitor (C2 in (See Datasheet)", 17 EP "Exposed Thermal pad"
part B pins: 5 NC "No internal connection", 8 NC "No internal connection", 13 NC "No internal connection", 16 NC "No internal connection"

## TPS65562RGTR
designator U?
Integrated Photo Flash Charger and IGBT Driver, 1.6 to 12 V, -35 to 85 degC, 16-pin QFN (RGT16), Green (RoHS & no Sb/Br); Manufacturer: Texas Instruments; PartNumber: TPS65562RGTR; Rating: Catalog; SubFamily: Photo-Flash Capacitor Charger; Vin(Max)(V): 4; Vin(Min)(V): 2.7; DatasheetVersion: SLVS775; PackageVersion: 4203495/H; PackageReference: RGT16-1650X1650TP; PackageDescription: 16-Pin Plastic Flat Pack, Body 3 x 3 mm, Pitch 0.5 mm; Supplier 1: Digi-Key; Supplier Part Number 1: 296-22478-2-ND; Supplier 2: Digi-Key; Supplier Part Number 2: 296-22478-1-ND; Supplier 3: Digi-Key; Supplier Part Number 3: 296-22478-6-ND; Supplier 4: Newark; Supplier Part Number 4: 50M9144; Supplier 5: Mouser; Supplier Part Number 5: 595-TPS65562RGTR; Eco-Plan: Green (RoHS & no Sb/Br); Mounting Technology: Surface Mount; Code_JEDEC: MO-220; ComponentLink1Description: Manufacturer URL; ComponentLink1URL: http://www.ti.com/; ComponentLink2Description: Datasheet; ComponentLink2URL: http://www.ti.com/general/docs/lit/getliterature.tsp?genericPartNumber=TPS65562&fileType=pdf; ComponentLink3Description: Package Specification; ComponentLink3URL: http://www.ti.com/litv/pdf/mpqf119g
footprint TI-RGT16-1650X1650TP_V (QFN, 16-Leads, Body 3x3mm, Pitch 0.5mm, Thermal Pad 1.7x1.7mm)
pins: 1 SW (power) "Primary side switch. Connect SW to the switched side of the transformer", 2 SW (power) "Primary side switch. Connect SW to the switched side of the transformer", 3 VCC (power) "Power supply input. Connect VCC to an input supply from 2.7 V to 4.0 V. Bypass VCC to GND with a 1 uF ceramic capacitor as close as possible to the IC.", 4 F_ON (in) "G_IGBT control input. Drives F_ON with the flash discharge signal. A logic high on F_ON drives G_IGBT high when CHG is Low. See the IGBT driver control section for details.", 5 I_PEAK (in) "Primary side Peak current control input. The voltage at I_PEAK sets the peak current into SW. See the Programming Peak Current section for details on selecting VI_PEAK.", 6 G_IGBT (out) "IGBT gate driver output. G_IGBT swings from PGND to VCC to drive external IGBT devices.", 7 NC "No internal connection", 8 IGBT_VCC (power) "Power supply input for IGBT Driver output. Connect IGBT_VCC to an input supply from 2.7 V to 5.5 V.", 9 XFULL (hiz) "Charge completion indicator output. XFULL is an open-drain output that pulls low once the output is fully charged. XFULL is high impedance during charging and all fault conditions. XFULL is reset when CHG turns Low from High.(See Datasheet)", 10 CHG (in) "Charge control input. Drive CHG high to initiate charging of the output. Drive CHG low to terminate charging.", 11 PGND (power) "Power ground. Connect to the ground plane.", 12 PGND (power) "Power ground. Connect to the ground plane.", 13 NC "No internal connection", 14 TEST_GND (power) "Used by TI, should be connected to PGND and ground plane.", 15 VBAT (power) "Battery voltage monitor input. Connect VBAT to an input supply from 1.6 V to 12 V. Bypass VBAT to GND with a 10 uF ceramic capacitor (C1 in Figure 1 as close as possible to the battery) and a 1 uF ceramic capacitor (C2 in (See Datasheet)", 16 NC "No internal connection", 17 EP "Exposed Thermal Pad"

## TPS65562RGTRG4
designator U?
Integrated Photo Flash Charger and IGBT Driver, 2.7 to 4 V, -35 to 85 degC, 16-pin QFN (RGT16), Green (RoHS & no Sb/Br); Manufacturer: Texas Instruments; PartNumber: TPS65562RGTRG4; Rating: Catalog; SubFamily: Photo-Flash Capacitor Charger; Vin(Max)(V): 4; Vin(Min)(V): 2.7; DatasheetVersion: SLVS775; PackageVersion: 4203495/H; PackageReference: RGT16-1650X1650TP; PackageDescription: 16-Pin Plastic Flat Pack, Body 3 x 3 mm, Pitch 0.5 mm; Supplier 1: Digi-Key; Supplier Part Number 1: TPS65562RGTRG4-ND; Supplier 2: Mouser; Supplier Part Number 2: 595-TPS65562RGTRG4; Eco-Plan: Green (RoHS & no Sb/Br); Mounting Technology: Surface Mount; Code_JEDEC: MO-220; ComponentLink1Description: Manufacturer URL; ComponentLink1URL: http://www.ti.com/; ComponentLink2Description: Datasheet; ComponentLink2URL: http://www.ti.com/general/docs/lit/getliterature.tsp?genericPartNumber=TPS65562&fileType=pdf; ComponentLink3Description: Package Specification; ComponentLink3URL: http://www.ti.com/litv/pdf/mpqf119g
footprint TI-RGT16-1650X1650TP_V (QFN, 16-Leads, Body 3x3mm, Pitch 0.5mm, Thermal Pad 1.7x1.7mm)
pins: 1 SW (power) "Primary side switch. Connect SW to the switched side of the transformer", 2 SW (power) "Primary side switch. Connect SW to the switched side of the transformer", 3 VCC (power) "Power supply input. Connect VCC to an input supply from 2.7 V to 4.0 V. Bypass VCC to GND with a 1 uF ceramic capacitor as close as possible to the IC.", 4 F_ON (in) "G_IGBT control input. Drives F_ON with the flash discharge signal. A logic high on F_ON drives G_IGBT high when CHG is Low. See the IGBT driver control section for details.", 5 I_PEAK (in) "Primary side Peak current control input. The voltage at I_PEAK sets the peak current into SW. See the Programming Peak Current section for details on selecting VI_PEAK.", 6 G_IGBT (out) "IGBT gate driver output. G_IGBT swings from PGND to VCC to drive external IGBT devices.", 7 NC "No internal connection", 8 IGBT_VCC (power) "Power supply input for IGBT Driver output. Connect IGBT_VCC to an input supply from 2.7 V to 5.5 V.", 9 XFULL (hiz) "Charge completion indicator output. XFULL is an open-drain output that pulls low once the output is fully charged. XFULL is high impedance during charging and all fault conditions. XFULL is reset when CHG turns Low from High.(See Datasheet)", 10 CHG (in) "Charge control input. Drive CHG high to initiate charging of the output. Drive CHG low to terminate charging.", 11 PGND (power) "Power ground. Connect to the ground plane.", 12 PGND (power) "Power ground. Connect to the ground plane.", 13 NC "No internal connection", 14 TEST_GND (power) "Used by TI, should be connected to PGND and ground plane.", 15 VBAT (power) "Battery voltage monitor input. Connect VBAT to an input supply from 1.6 V to 12 V. Bypass VBAT to GND with a 10 uF ceramic capacitor (C1 in Figure 1 as close as possible to the battery) and a 1 uF ceramic capacitor (C2 in (See Datasheet)", 16 NC "No internal connection", 17 EP "Exposed Thermal Pad"

## TPS65562RGTT
designator U?
Integrated Photo Flash Charger and IGBT Driver, 2.7 to 4 V, -35 to 85 degC, 16-pin QFN (RGT16), Green (RoHS & no Sb/Br); Manufacturer: Texas Instruments; PartNumber: TPS65562RGTT; Rating: Catalog; SubFamily: Photo-Flash Capacitor Charger; Vin(Max)(V): 4; Vin(Min)(V): 2.7; DatasheetVersion: SLVS775; PackageVersion: 4203495/H; PackageReference: RGT16-1650X1650TP; PackageDescription: 16-Pin Plastic Flat Pack, Body 3 x 3 mm, Pitch 0.5 mm; Supplier 1: Digi-Key; Supplier Part Number 1: TPS65562RGTT-ND; Supplier 2: Mouser; Supplier Part Number 2: 595-TPS65562RGTT; Eco-Plan: Green (RoHS & no Sb/Br); Mounting Technology: Surface Mount; Code_JEDEC: MO-220; ComponentLink1Description: Manufacturer URL; ComponentLink1URL: http://www.ti.com/; ComponentLink2Description: Datasheet; ComponentLink2URL: http://www.ti.com/general/docs/lit/getliterature.tsp?genericPartNumber=TPS65562&fileType=pdf; ComponentLink3Description: Package Specification; ComponentLink3URL: http://www.ti.com/litv/pdf/mpqf119g
footprint TI-RGT16-1650X1650TP_V (QFN, 16-Leads, Body 3x3mm, Pitch 0.5mm, Thermal Pad 1.7x1.7mm)
pins: 1 SW (power) "Primary side switch. Connect SW to the switched side of the transformer", 2 SW (power) "Primary side switch. Connect SW to the switched side of the transformer", 3 VCC (power) "Power supply input. Connect VCC to an input supply from 2.7 V to 4.0 V. Bypass VCC to GND with a 1 uF ceramic capacitor as close as possible to the IC.", 4 F_ON (in) "G_IGBT control input. Drives F_ON with the flash discharge signal. A logic high on F_ON drives G_IGBT high when CHG is Low. See the IGBT driver control section for details.", 5 I_PEAK (in) "Primary side Peak current control input. The voltage at I_PEAK sets the peak current into SW. See the Programming Peak Current section for details on selecting VI_PEAK.", 6 G_IGBT (out) "IGBT gate driver output. G_IGBT swings from PGND to VCC to drive external IGBT devices.", 7 NC "No internal connection", 8 IGBT_VCC (power) "Power supply input for IGBT Driver output. Connect IGBT_VCC to an input supply from 2.7 V to 5.5 V.", 9 XFULL (hiz) "Charge completion indicator output. XFULL is an open-drain output that pulls low once the output is fully charged. XFULL is high impedance during charging and all fault conditions. XFULL is reset when CHG turns Low from High.(See Datasheet)", 10 CHG (in) "Charge control input. Drive CHG high to initiate charging of the output. Drive CHG low to terminate charging.", 11 PGND (power) "Power ground. Connect to the ground plane.", 12 PGND (power) "Power ground. Connect to the ground plane.", 13 NC "No internal connection", 14 TEST_GND (power) "Used by TI, should be connected to PGND and ground plane.", 15 VBAT (power) "Battery voltage monitor input. Connect VBAT to an input supply from 1.6 V to 12 V. Bypass VBAT to GND with a 10 uF ceramic capacitor (C1 in Figure 1 as close as possible to the battery) and a 1 uF ceramic capacitor (C2 in (See Datasheet)", 16 NC "No internal connection", 17 EP "Exposed Thermal Pad"

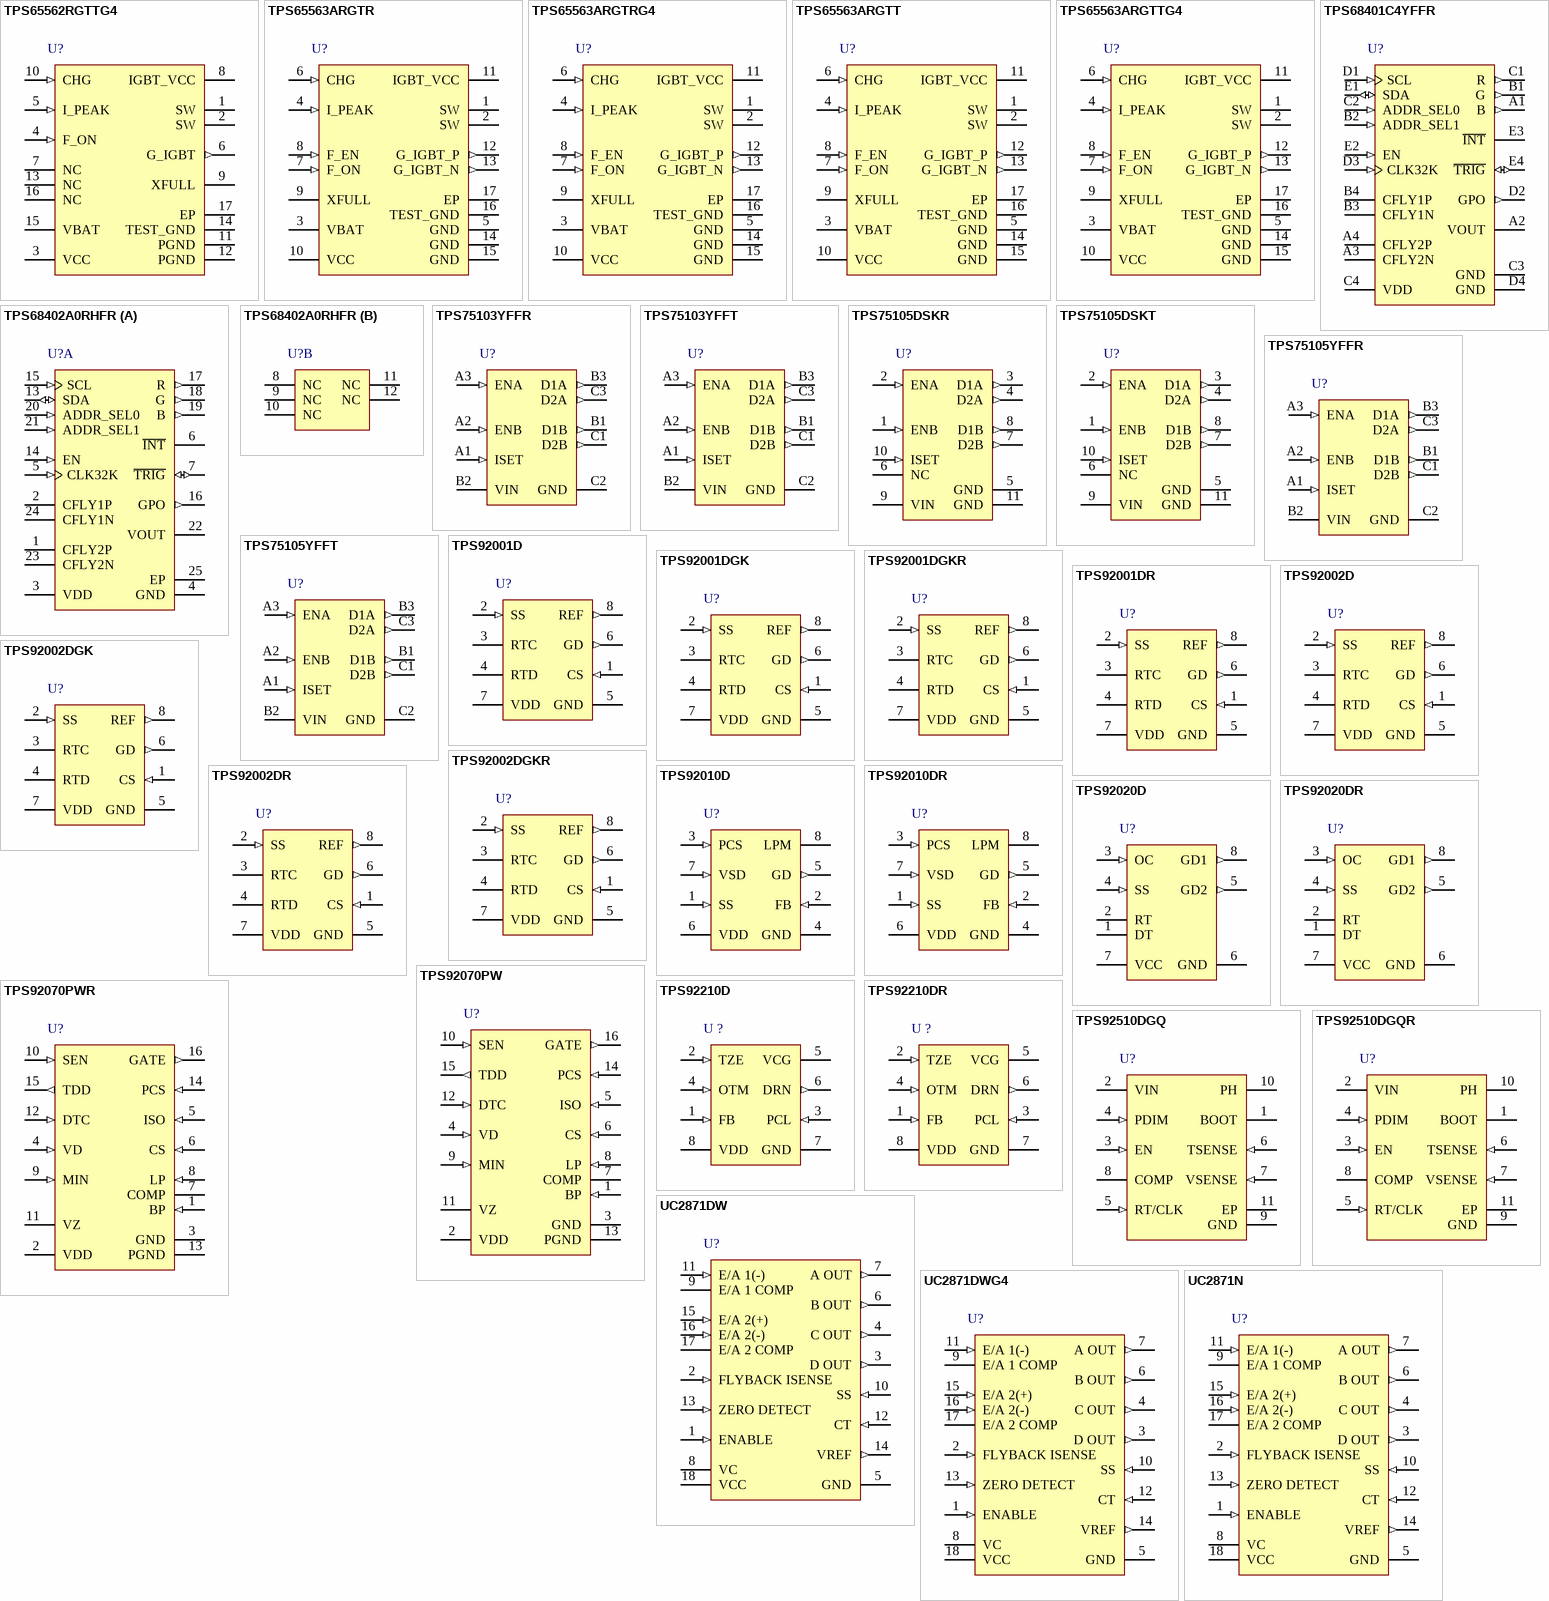
[diagram p28: symbols TPS65562RGTTG4 to UC2871N]